# EAGLE library part ADCMP602 (library yapo)
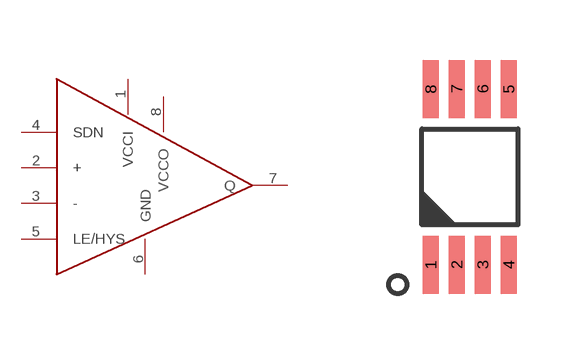
[diagram p81: symbol with the pads of MSOP8; footprint MSOP8]

Designator prefix IC

## ADCMP602  [MSOP8]
1  VCCI
2  +
3  -
4  SDN
5  LE/HYS
6  GND
7  Q
8  VCCO

## Footprint MSOP8 (pad centres in mm)
smd 0.4 x 1.45: 1 -0.975,-2.2; 2 -0.325,-2.2; 3 0.325,-2.2; 4 0.975,-2.2; 5 0.975,2.2; 6 0.325,2.2; 7 -0.325,2.2; 8 -0.975,2.2